# Altium schematic symbol library 10129381-908002BLF.SchLib: 1 symbol
Pins are listed as number, name and electrical type; pins without a type are passive.

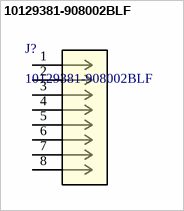
[diagram p0: symbol 10129381-908002BLF]

## 10129381-908002BLF
designator J?
No Description Available; Manufacturer_Name: Amphenol ICC; Copyright: Copyright (C) 2026 Ultra Librarian. All rights reserved.; Manufacturer_Part_Number: 10129381-908002BLF; RefDes: RefDes; Type: Type
footprint CONN_10129381-X08002XLF_AMP
pins: 1, 2, 3, 4, 5, 6, 7, 8